# Altium schematic symbol library UBCSolar.SCHLIB: 101 symbols
Pins are listed as number, name and electrical type; pins without a type are passive.

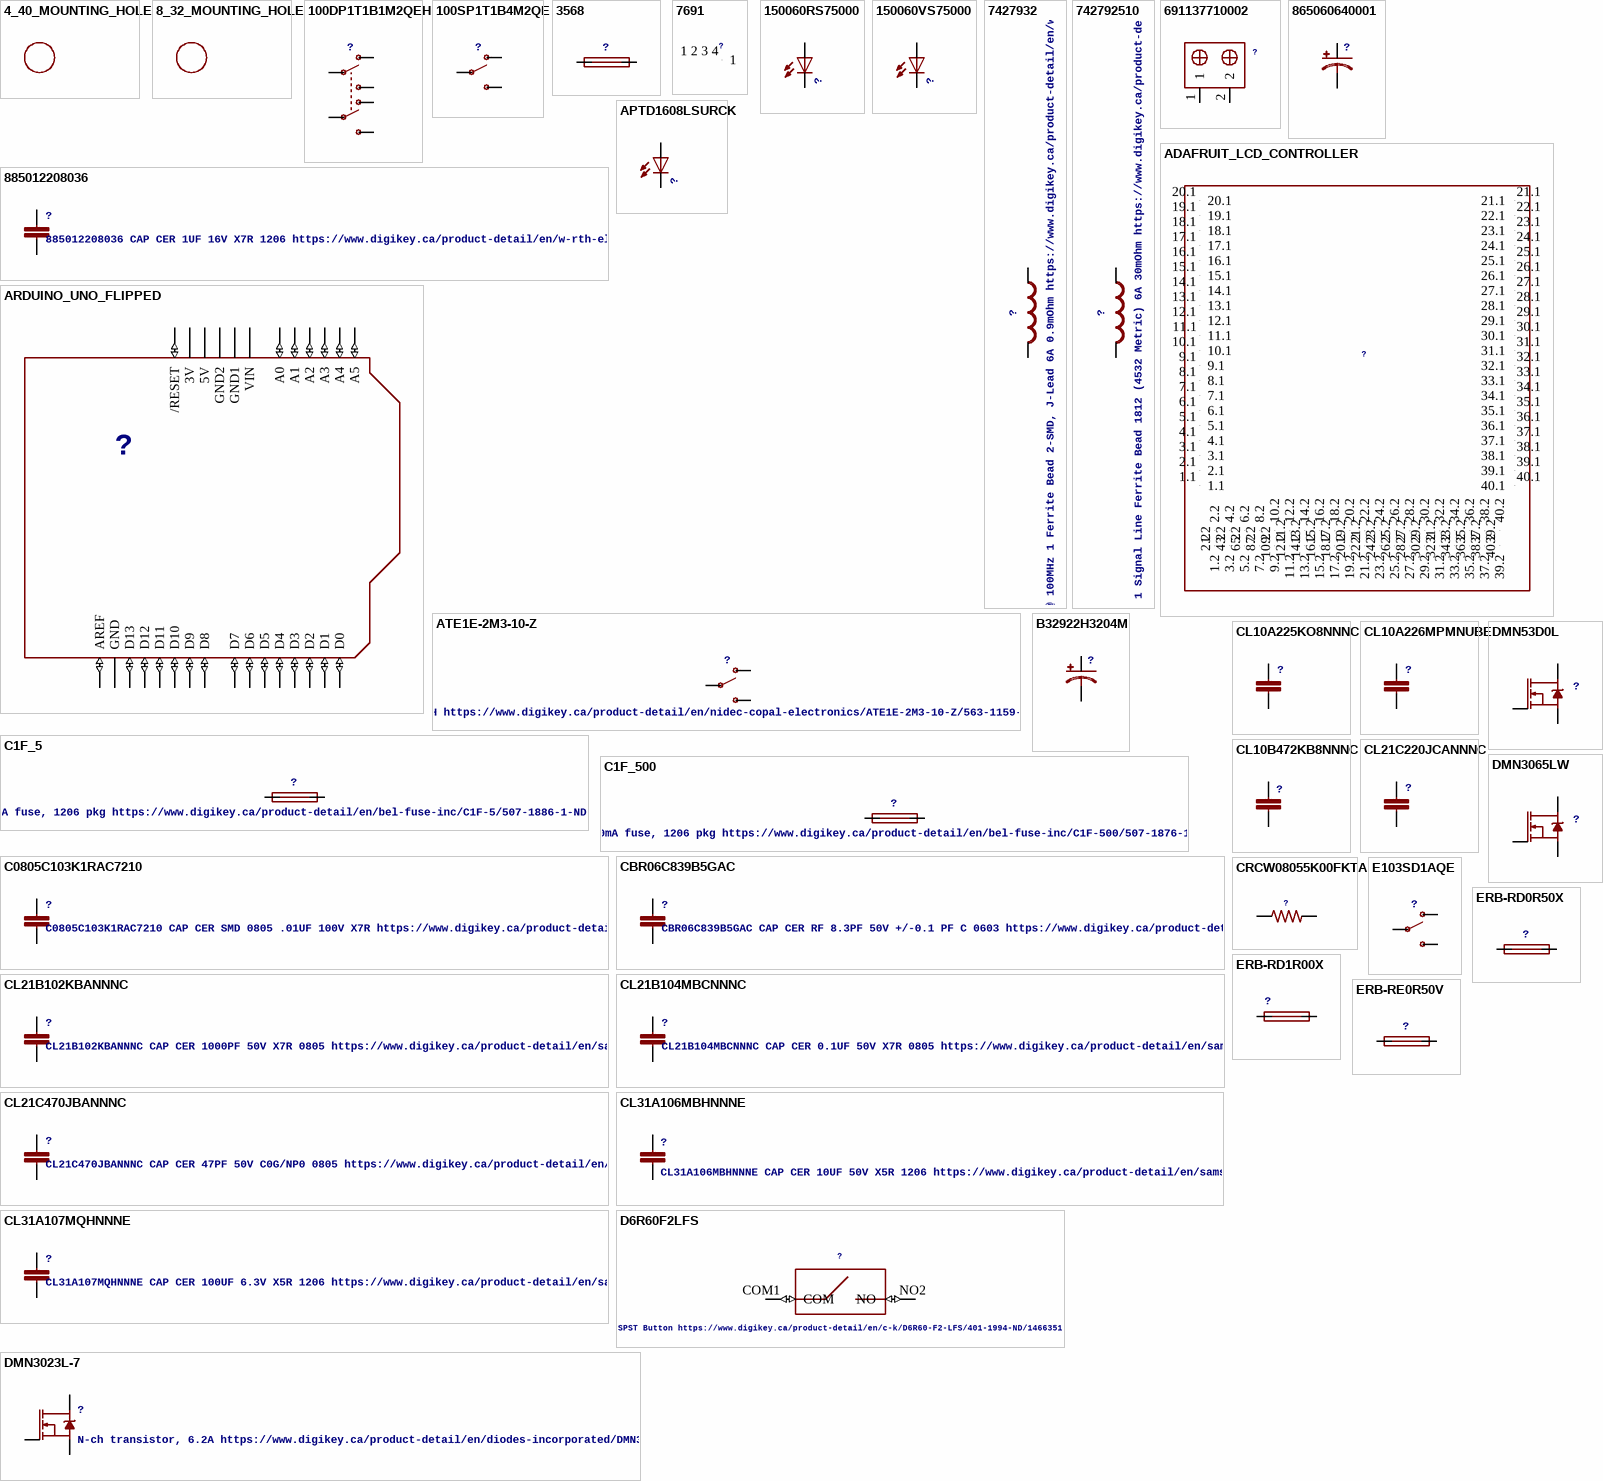
[diagram p0: symbols 4_40_MOUNTING_HOLE to ERB-RE0R50V]

## 4_40_MOUNTING_HOLE
designator ?
GateName_1: G$1; SymbolName_1: 4_40_MOUNTING_HOLE; LibraryName: UBCSolar; DeviceSetName: 4_40_MOUNTING_HOLE; Package: 4_40_MOUNTING_HOLE
footprint 4_40_MOUNTING_HOLE

## 8_32_MOUNTING_HOLE
designator ?
GateName_1: G$1; SymbolName_1: 8_32_MOUNTING_HOLE; LibraryName: UBCSolar; DeviceSetName: 8_32_MOUNTING_HOLE; Package: 8_32_MOUNTING_HOLE
footprint 8_32_MOUNTING_HOLE

## 100DP1T1B1M2QEH
designator ?
GateName_1: G$1; SymbolName_1: 100DP1T1B1M2QEH; LibraryName: UBCSolar; DeviceSetName: 100DP1T1B1M2QEH; Package: 100DP1T1B1M2QEH
footprint 100DP1T1B1M2QEH
pins: 1, 2, 3, 4, 5, 6

## 100SP1T1B4M2QE
designator ?
GateName_1: G$1; SymbolName_1: 100SP1T1B4M2QE; LibraryName: UBCSolar; DeviceSetName: 100SP1T1B4M2QE; Package: 100SP1T1B4M2QE
footprint 100SP1T1B4M2QE
pins: COM, NC, NO

## 3568
designator ?
GateName_1: G$1; SymbolName_1: 3568; LibraryName: UBCSolar; DeviceSetName: 3568; Package: 3568
footprint 3568
pins: 1.1 1.2 1, 2.1 2.2 2

## 7691
designator ?
GateName_1: G$1; SymbolName_1: 7691; LibraryName: UBCSolar; DeviceSetName: 7691; Package: 7691
footprint 7691
pins: 1 2 3 4 1 (io)

## 150060RS75000
designator ?
GateName_1: G$1; SymbolName_1: 150060RS75000; LibraryName: UBCSolar; DeviceSetName: 150060RS75000; Package: 150060RS75000
footprint 150060RS75000
pins: +, -

## 150060VS75000
designator ?
GateName_1: G$1; SymbolName_1: 150060VS75000; LibraryName: UBCSolar; DeviceSetName: 150060VS75000; Package: 150060VS75000
footprint 150060VS75000
pins: +, -

## 7427932
designator ?, comment 7427932 FERRITE BEAD 98 OHM 2SMD 1LN 98 Ohms @ 100MHz 1 Ferrite Bead 2-SMD, J-Lead 6A 0.9mOhm https://www.digikey.ca/product-detail/en/w-rth-elektronik/7427932/732-2394-1-ND/2268596
GateName_1: G$1; SymbolName_1: INDUCTOR; LibraryName: UBCSolar; DeviceSetName: 7427932; Package: 2-SMD_J-LEAD
footprint 2-SMD_J-LEAD
pins: 1, 2

## 742792510
designator ?, comment 742792510 	FERRITE BEAD 70 OHM 1812 1LN 70 Ohms @ 100MHz 1 Signal Line Ferrite Bead 1812 (4532 Metric) 6A 30mOhm https://www.digikey.ca/product-detail/en/w-rth-elektronik/742792510/732-1640-1-ND/1639584
GateName_1: G$1; SymbolName_1: INDUCTOR; LibraryName: UBCSolar; DeviceSetName: 742792510; Package: 1812
footprint 1812
pins: P$1 1, P$2 2

## 691137710002
designator ?
GateName_1: G$1; SymbolName_1: 691137710002; LibraryName: UBCSolar; DeviceSetName: 691137710002; Package: 691137710002
footprint 691137710002
pins: 1 (io), 2 (io)

## 865060640001
designator ?
GateName_1: G$1; SymbolName_1: 865060640001; LibraryName: UBCSolar; DeviceSetName: 865060640001; Package: 865060640001
footprint 865060640001
pins: +, -

## 885012208036
designator ?, comment 885012208036 CAP CER 1UF 16V X7R 1206 https://www.digikey.ca/product-detail/en/w-rth-elektronik/885012208036/732-7692-1-ND/5454319
GateName_1: G$1; SymbolName_1: CERAMIC_CAP; LibraryName: UBCSolar; DeviceSetName: 885012208036; Package: 1206
footprint 1206
pins: 1, 2

## ADAFRUIT_LCD_CONTROLLER
designator ?
GateName_1: G$1; SymbolName_1: ADAFRUIT_LCD_CONTROLLER; LibraryName: UBCSolar; DeviceSetName: ADAFRUIT_LCD_CONTROLLER; Package: ADAFRUIT_LCD_CONTROLLER
footprint ADAFRUIT_LCD_CONTROLLER
pins: 1.1 (io), 1.2 (io), 2.1 (io), 2.2 (io), 3.1 (io), 3.2 (io), 4.1 (io), 4.2 (io), 5.1 (io), 5.2 (io), 6.1 (io), 6.2 (io), 7.1 (io), 7.2 (io), 8.1 (io), 8.2 (io), 9.1 (io), 9.2 (io), 10.1 (io), 10.2 (io), 11.1 (io), 11.2 (io), 12.1 (io), 12.2 (io), 13.1 (io), 13.2 (io), 14.1 (io), 14.2 (io), 15.1 (io), 15.2 (io), 16.1 (io), 16.2 (io), 17.1 (io), 17.2 (io), 18.1 (io), 18.2 (io), 19.1 (io), 19.2 (io), 20.1 (io), 20.2 (io), 21.1 (io), 21.2 (io), 22.1 (io), 22.2 (io), 23.1 (io), 23.2 (io), 24.1 (io), 24.2 (io), 25.1 (io), 25.2 (io), 26.1 (io), 26.2 (io), 27.1 (io), 27.2 (io), 28.1 (io), 28.2 (io), 29.1 (io), 29.2 (io), 30.1 (io), 30.2 (io), 31.1 (io), 31.2 (io), 32.1 (io), 32.2 (io), 33.1 (io), 33.2 (io), 34.1 (io), 34.2 (io), 35.1 (io), 35.2 (io), 36.1 (io), 36.2 (io), 37.1 (io), 37.2 (io), 38.1 (io), 38.2 (io), 39.1 (io), 39.2 (io), 40.1 (io), 40.2 (io)

## APTD1608LSURCK
designator ?
GateName_1: G$1; SymbolName_1: APTD1608LSURCK; LibraryName: UBCSolar; DeviceSetName: APTD1608LSURCK; Package: APTD1608LSURCK
footprint APTD1608LSURCK
pins: +, -

## ARDUINO_UNO_FLIPPED
designator ?
GateName_1: G$1; SymbolName_1: ARDUINO_UNO; DeviceSetName: ARDUINO_UNO_FLIPPED; LibraryName: UBCSolar; Package: ARDUINO_UNO_FLIPPED
footprint ARDUINO_UNO_FLIPPED
pins: 3V (power), 5V (power), A0 (io), A1 (io), A2 (io), A3 (io), A4 (io), A5 (io), AREF (io), D0 (io), D1 (io), D2 (io), D3 (io), D4 (io), D5 (io), D6 (io), D7 (io), D8 (io), D9 (io), D10 (io), D11 (io), D12 (io), D13 (io), GND (power), GND1 (power), GND2 (power), RESET /RESET (io), VIN (power)

## ATE1E-2M3-10-Z
designator ?, comment SPDT SWITCH https://www.digikey.ca/product-detail/en/nidec-copal-electronics/ATE1E-2M3-10-Z/563-1159-ND/1792020
GateName_1: G$1; SymbolName_1: ATE1E-2M3-10-Z; LibraryName: UBCSolar; DeviceSetName: ATE1E-2M3-10-Z; Package: ATE1E-2M3-10-Z
footprint ATE1E-2M3-10-Z
pins: COM, NC, NO

## B32922H3204M
designator ?
GateName_1: G$1; SymbolName_1: B32922H3204M; LibraryName: UBCSolar; DeviceSetName: B32922H3204M; Package: B32922H3204M
footprint B32922H3204M
pins: +, -

## C1F_5
designator ?, comment C1F 5, 5A fuse, 1206 pkg https://www.digikey.ca/product-detail/en/bel-fuse-inc/C1F-5/507-1886-1-ND/4968166
GateName_1: G$1; DeviceSetName: C1F_5; SymbolName_1: FUSE; LibraryName: UBCSolar; Package: 1206
footprint 1206
pins: 1, 2

## C1F_500
designator ?, comment C1F 500, 500mA fuse, 1206 pkg https://www.digikey.ca/product-detail/en/bel-fuse-inc/C1F-500/507-1876-1-ND/4968167
GateName_1: G$1; DeviceSetName: C1F_500; SymbolName_1: FUSE; LibraryName: UBCSolar; Package: 1206
footprint 1206
pins: 1, 2

## C0805C103K1RAC7210
designator ?, comment C0805C103K1RAC7210 CAP CER SMD 0805 .01UF 100V X7R https://www.digikey.ca/product-detail/en/kemet/C0805C103K1RAC7210/399-17617-1-ND/8572617
GateName_1: G$1; SymbolName_1: CERAMIC_CAP; LibraryName: UBCSolar; DeviceSetName: C0805C103K1RAC7210; Package: 0805
footprint 0805
pins: 1, 2

## CBR06C839B5GAC
designator ?, comment CBR06C839B5GAC CAP CER RF 8.3PF 50V +/-0.1 PF C 0603 https://www.digikey.ca/product-detail/en/kemet/CBR06C839B5GAC/399-16261-1-ND/7649846
GateName_1: G$1; SymbolName_1: CERAMIC_CAP; LibraryName: UBCSolar; DeviceSetName: CBR06C839B5GAC; Package: 0603
footprint 0603
pins: 1, 2

## CL10A225KO8NNNC
designator ?
GateName_1: G$1; SymbolName_1: CL10A225KO8NNNC; LibraryName: UBCSolar; DeviceSetName: CL10A225KO8NNNC; Package: CL10A225KO8NNNC
footprint CL10A225KO8NNNC
pins: 1, 2

## CL10A226MPMNUBE
designator ?
GateName_1: G$1; SymbolName_1: CL10A226MPMNUBE; LibraryName: UBCSolar; DeviceSetName: CL10A226MPMNUBE; Package: CL10A226MPMNUBE
footprint CL10A226MPMNUBE
pins: P$1 1, P$2 2

## CL10B472KB8NNNC
designator ?
GateName_1: G$1; SymbolName_1: CL10B472KB8NNNC; LibraryName: UBCSolar; DeviceSetName: CL10B472KB8NNNC; Package: CL10B472KB8NNNC
footprint CL10B472KB8NNNC
pins: 1, 2

## CL21B102KBANNNC
designator ?, comment CL21B102KBANNNC CAP CER 1000PF 50V X7R 0805 https://www.digikey.ca/product-detail/en/samsung-electro-mechanics/CL21B102KBANNNC/1276-1020-1-ND/3889106
GateName_1: G$1; SymbolName_1: CERAMIC_CAP; LibraryName: UBCSolar; DeviceSetName: CL21B102KBANNNC; Package: 0805
footprint 0805
pins: 1, 2

## CL21B104MBCNNNC
designator ?, comment CL21B104MBCNNNC CAP CER 0.1UF 50V X7R 0805 https://www.digikey.ca/product-detail/en/samsung-electro-mechanics/CL21B104MBCNNNC/1276-2450-1-ND/3890536
GateName_1: G$1; SymbolName_1: CERAMIC_CAP; LibraryName: UBCSolar; DeviceSetName: CL21B104MBCNNNC; Package: 0805
footprint 0805
pins: 1, 2

## CL21C220JCANNNC
designator ?
GateName_1: G$1; SymbolName_1: CERAMIC_CAP; DeviceSetName: CL21C220JCANNNC; LibraryName: UBCSolar; Package: 0805
footprint 0805
pins: 1, 2

## CL21C470JBANNNC
designator ?, comment CL21C470JBANNNC CAP CER 47PF 50V C0G/NP0 0805 https://www.digikey.ca/product-detail/en/samsung-electro-mechanics/CL21C470JBANNNC/1276-1156-1-ND/3889242
GateName_1: G$1; SymbolName_1: CERAMIC_CAP; LibraryName: UBCSolar; DeviceSetName: CL21C470JBANNNC; Package: 0805
footprint 0805
pins: 1, 2

## CL31A106MBHNNNE
designator ?, comment CL31A106MBHNNNE CAP CER 10UF 50V X5R 1206 https://www.digikey.ca/product-detail/en/samsung-electro-mechanics/CL31A106MBHNNNE/1276-6736-1-ND/5961595
GateName_1: G$1; SymbolName_1: CL31A106MBHNNNE; LibraryName: UBCSolar; DeviceSetName: CL31A106MBHNNNE; Package: CL31A106MBHNNNE
footprint CL31A106MBHNNNE
pins: P$1 1, P$2 2

## CL31A107MQHNNNE
designator ?, comment CL31A107MQHNNNE CAP CER 100UF 6.3V X5R 1206 https://www.digikey.ca/product-detail/en/samsung-electro-mechanics/CL31A107MQHNNNE/1276-1782-1-ND/3889868
GateName_1: G$1; SymbolName_1: CERAMIC_CAP; LibraryName: UBCSolar; DeviceSetName: CL31A107MQHNNNE; Package: 1206
footprint 1206
pins: 1, 2

## CRCW08055K00FKTA
designator ?
GateName_1: G$1; SymbolName_1: CRCW08055K00FKTA; LibraryName: UBCSolar; DeviceSetName: CRCW08055K00FKTA; Package: CRCW08055K00FKTA
footprint CRCW08055K00FKTA
pins: P$1 1, P$2 2

## D6R60F2LFS
designator ?, comment SPST Button https://www.digikey.ca/product-detail/en/c-k/D6R60-F2-LFS/401-1994-ND/1466351
GateName_1: G$1; SymbolName_1: D6R60F2LFS; LibraryName: UBCSolar; DeviceSetName: D6R60F2LFS; Package: D6R60F2LFS
footprint D6R60F2LFS
pins: COM1 COM (io), NO2 NO (io)

## DMN53D0L
designator ?
GateName_1: G$1; SymbolName_1: DMN53D0L; LibraryName: UBCSolar; DeviceSetName: DMN53D0L; Package: DMN53D0L
footprint DMN53D0L
pins: D (io), G (io), S (io)

## DMN3023L-7
designator ?, comment N-ch transistor, 6.2A https://www.digikey.ca/product-detail/en/diodes-incorporated/DMN3023L-7/DMN3023L-7DICT-ND/5453155
GateName_1: G$1; SymbolName_1: DMN3023L-7; LibraryName: UBCSolar; DeviceSetName: DMN3023L-7; Package: SOT-23
footprint SOT-23
pins: D (io), G (io), S (io)

## DMN3065LW
designator ?
GateName_1: G$1; SymbolName_1: DMN3065LW; LibraryName: UBCSolar; DeviceSetName: DMN3065LW; Package: DMN3065LW
footprint DMN3065LW
pins: D (io), G (io), S (io)

## E103SD1AQE
designator ?
GateName_1: G$1; SymbolName_1: E103SD1AQE; LibraryName: UBCSolar; DeviceSetName: E103SD1AQE; Package: E103SD1AQE
footprint E103SD1AQE
pins: 1, 2, 3

## ERB-RD0R50X
designator ?
GateName_1: G$1; SymbolName_1: ERB-RD0R50X; LibraryName: UBCSolar; DeviceSetName: ERB-RD0R50X; Package: ERB-RD0R50X
footprint ERB-RD0R50X
pins: 1, 2

## ERB-RD1R00X
designator ?
GateName_1: G$1; SymbolName_1: ERB-RD1R00X; LibraryName: UBCSolar; DeviceSetName: ERB-RD1R00X; Package: ERB-RD1R00X
footprint ERB-RD1R00X
pins: 1, 2

## ERB-RE0R50V
designator ?
GateName_1: G$1; SymbolName_1: ERB-RE0R50V; LibraryName: UBCSolar; DeviceSetName: ERB-RE0R50V; Package: ERB-RE0R50V
footprint ERB-RE0R50V
pins: 1, 2

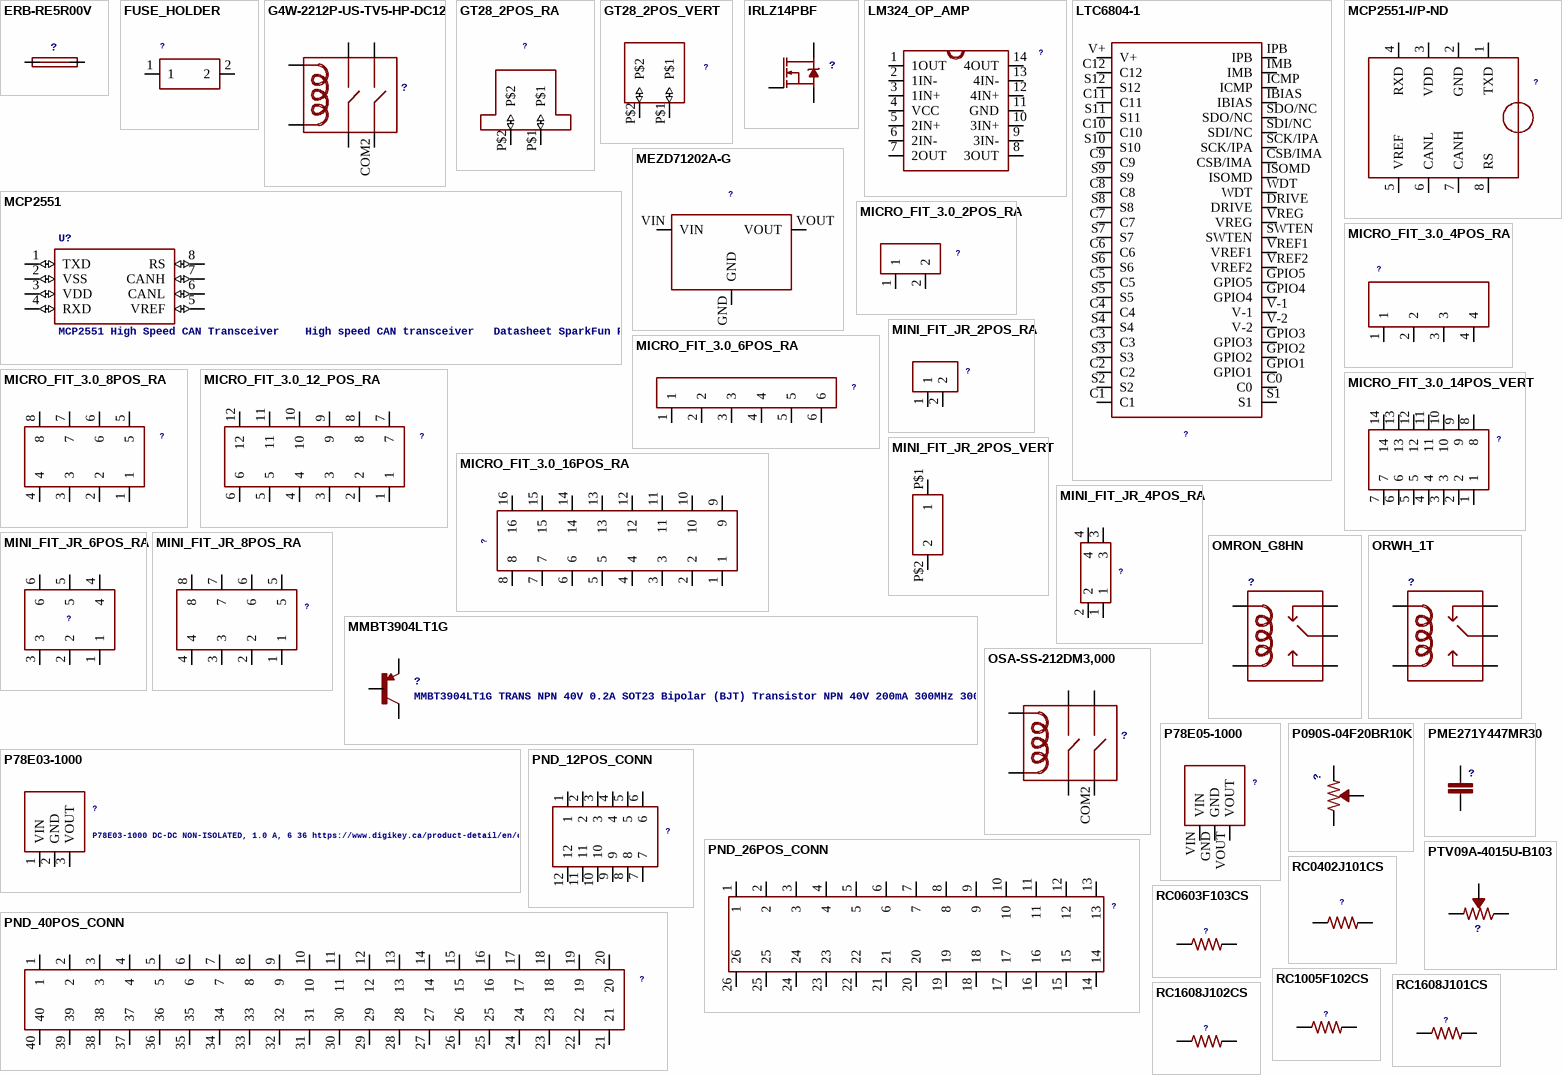
[diagram p1: symbols ERB-RE5R00V to RC1608J102CS]

## ERB-RE5R00V
designator ?
GateName_1: G$1; SymbolName_1: ERB-RE5R00V; LibraryName: UBCSolar; DeviceSetName: ERB-RE5R00V; Package: ERB-RE5R00V
footprint ERB-RE5R00V
pins: 1, 2

## FUSE_HOLDER
designator ?
GateName_1: G$1; SymbolName_1: FUSE_HOLDER; LibraryName: UBCSolar; DeviceSetName: FUSE_HOLDER; Package: FUSE_HOLDER
footprint FUSE_HOLDER
pins: 1 (io), 2 (io)

## G4W-2212P-US-TV5-HP-DC12
designator ?
GateName_1: G$1; SymbolName_1: G4W-2212P-US-TV5-HP-DC12; LibraryName: UBCSolar; DeviceSetName: G4W-2212P-US-TV5-HP-DC12; Package: G4W-2212P-US-TV5-HP-DC12
footprint G4W-2212P-US-TV5-HP-DC12
pins: COIL1 (io), COIL2 (io), COM1 (io), COM2 (io), NO1 (io), NO2 (io)

## GT28_2POS_RA
designator ?
GateName_1: G$1; SymbolName_1: GT28_2POS_RA; LibraryName: UBCSolar; DeviceSetName: GT28_2POS_RA; Package: GT28_2POS_RA
footprint GT28_2POS_RA
pins: P$1 (io), P$2 (io)

## GT28_2POS_VERT
designator ?
GateName_1: G$1; SymbolName_1: GT28_2POS_VERT; LibraryName: UBCSolar; DeviceSetName: GT28_2POS_VERT; Package: GT28_2POS_VERT
footprint GT28_2POS_VERT
pins: P$1 (io), P$2 (io)

## IRLZ14PBF
designator ?
GateName_1: G$1; SymbolName_1: IRLZ14PBF; LibraryName: UBCSolar; DeviceSetName: IRLZ14PBF; Package: IRLZ14PBF
footprint IRLZ14PBF
pins: D (io), G (io), S (io)

## LM324_OP_AMP
designator ?
GateName_1: G$1; SymbolName_1: LM324_OP_AMP; LibraryName: UBCSolar; DeviceSetName: LM324_OP_AMP; Package: LM324_OP_AMP
footprint LM324_OP_AMP
pins: 1 1OUT (io), 2 1IN- (io), 3 1IN+ (io), 4 VCC (io), 5 2IN+ (io), 6 2IN- (io), 7 2OUT (io), 8 3OUT (io), 9 3IN- (io), 10 3IN+ (io), 11 GND (io), 12 4IN+ (io), 13 4IN- (io), 14 4OUT (io)

## LTC6804-1
designator ?
GateName_1: G$1; SymbolName_1: LTC6804-1; LibraryName: UBCSolar; DeviceSetName: LTC6804-1; Package: LTC6804-1
footprint LTC6804-1
pins: C0 (io), C1 (io), C2 (io), C3 (io), C4 (io), C5 (io), C6 (io), C7 (io), C8 (io), C9 (io), C10 (io), C11 (io), C12 (io), CSB/IMA (io), DRIVE (io), GPIO1 (io), GPIO2 (io), GPIO3 (io), GPIO4 (io), GPIO5 (io), IBIAS (io), ICMP (io), IMB (io), IPB (io), ISOMD (io), S1 (io), S2 (io), S3 (io), S4 (io), S5 (io), S6 (io), S7 (io), S8 (io), S9 (io), S10 (io), S11 (io), S12 (io), SCK/IPA (io), SDI/NC (io), SDO/NC (io), SWTEN (io), V+ (io), V-1 (io), V-2 (io), VREF1 (io), VREF2 (io), VREG (io), WDT (io)

## MCP2551
designator U?, comment MCP2551 High Speed CAN Transceiver    High speed CAN transceiver   Datasheet SparkFun Products  CAN-BUS Shield (DEV-13262)  SparkFun OBD-II UART (WIG-09555)
PROD_ID: IC-09907; GateName_1: MCP2551; SymbolName_1: MCP2551; LibraryName: UBCSolar; DeviceSetName: MCP2551; Package: SO08
footprint SO08
pins: 1 TXD (io), 2 VSS (io), 3 VDD (io), 4 RXD (io), 5 VREF (io), 6 CANL (io), 7 CANH (io), 8 RS (io)

## MCP2551-I/P-ND
designator ?
GateName_1: G$1; SymbolName_1: MCP2551-I/P-ND; LibraryName: UBCSolar; DeviceSetName: MCP2551-I/P-ND; Package: MCP2551-I/P-ND
footprint MCP2551-I/P-ND
pins: 1 TXD (io), 2 GND (io), 3 VDD (io), 4 RXD (io), 5 VREF (io), 6 CANL (io), 7 CANH (io), 8 RS (io)

## MEZD71202A-G
designator ?
GateName_1: G$1; SymbolName_1: MEZD71202A-G; LibraryName: UBCSolar; DeviceSetName: MEZD71202A-G; Package: MEZD71202A-G
footprint MEZD71202A-G
pins: GND (io), VIN (io), VOUT (io)

## MICRO_FIT_3.0_2POS_RA
designator ?
GateName_1: G$1; SymbolName_1: MICRO_FIT_3.0_2POS_RA; LibraryName: UBCSolar; DeviceSetName: MICRO_FIT_3.0_2POS_RA; Package: MICRO_FIT_3.0_2POS_RA
footprint MICRO_FIT_3.0_2POS_RA
pins: 1 (io), 2 (io)

## MICRO_FIT_3.0_4POS_RA
designator ?
GateName_1: G$1; SymbolName_1: MICRO_FIT_3.0_4POS_RA; LibraryName: UBCSolar; DeviceSetName: MICRO_FIT_3.0_4POS_RA; Package: MICRO_FIT_3.0_4POS_RA
footprint MICRO_FIT_3.0_4POS_RA
pins: 1 (io), 2 (io), 3 (io), 4 (io)

## MICRO_FIT_3.0_6POS_RA
designator ?
GateName_1: G$1; SymbolName_1: MICRO_FIT_3.0_6POS_RA; LibraryName: UBCSolar; DeviceSetName: MICRO_FIT_3.0_6POS_RA; Package: MICRO_FIT_3.0_6POS_RA
footprint MICRO_FIT_3.0_6POS_RA
pins: 1 (io), 2 (io), 3 (io), 4 (io), 5 (io), 6 (io)

## MICRO_FIT_3.0_8POS_RA
designator ?
GateName_1: G$1; SymbolName_1: MICRO_FIT_3.0_8POS_RA; LibraryName: UBCSolar; DeviceSetName: MICRO_FIT_3.0_8POS_RA; Package: MICRO_FIT_3.0_8POS_RA
footprint MICRO_FIT_3.0_8POS_RA
pins: 1 (io), 2 (io), 3 (io), 4 (io), 5 (io), 6 (io), 7 (io), 8 (io)

## MICRO_FIT_3.0_12_POS_RA
designator ?
GateName_1: G$1; SymbolName_1: MICRO_FIT_3.0_12POS_RA; DeviceSetName: MICRO_FIT_3.0_12_POS_RA; LibraryName: UBCSolar; Package: MICRO_FIT_3.0_12POS_RA
footprint MICRO_FIT_3.0_12POS_RA
pins: 1 (io), 2 (io), 3 (io), 4 (io), 5 (io), 6 (io), 7 (io), 8 (io), 9 (io), 10 (io), 11 (io), 12 (io)

## MICRO_FIT_3.0_14POS_VERT
designator ?
GateName_1: G$1; SymbolName_1: MICRO_FIT_3.0_14POS_VERT; LibraryName: UBCSolar; DeviceSetName: MICRO_FIT_3.0_14POS_VERT; Package: MICRO_FIT_3.0_14POS_VERT
footprint MICRO_FIT_3.0_14POS_VERT
pins: 1 (io), 2 (io), 3 (io), 4 (io), 5 (io), 6 (io), 7 (io), 8 (io), 9 (io), 10 (io), 11 (io), 12 (io), 13 (io), 14 (io)

## MICRO_FIT_3.0_16POS_RA
designator ?
GateName_1: G$1; SymbolName_1: MICRO_FIT_3.0_16POS_RA; LibraryName: UBCSolar; DeviceSetName: MICRO_FIT_3.0_16POS_RA; Package: MICRO_FIT_3.0_16POS_RA
footprint MICRO_FIT_3.0_16POS_RA
pins: 1 (io), 2 (io), 3 (io), 4 (io), 5 (io), 6 (io), 7 (io), 8 (io), 9 (io), 10 (io), 11 (io), 12 (io), 13 (io), 14 (io), 15 (io), 16 (io)

## MINI_FIT_JR_2POS_RA
designator ?
GateName_1: G$1; SymbolName_1: MINI_FIT_JR_2POS_RA; LibraryName: UBCSolar; DeviceSetName: MINI_FIT_JR_2POS_RA; Package: MINI_FIT_JR_2POS_RA
footprint MINI_FIT_JR_2POS_RA
pins: 1 (io), 2 (io)

## MINI_FIT_JR_2POS_VERT
designator ?
GateName_1: G$1; SymbolName_1: MINI_FIT_JR_2POS_VERT; LibraryName: UBCSolar; DeviceSetName: MINI_FIT_JR_2POS_VERT; Package: MINI_FIT_JR_2POS_VERT
footprint MINI_FIT_JR_2POS_VERT
pins: P$1 1 (io), P$2 2 (io)

## MINI_FIT_JR_4POS_RA
designator ?
GateName_1: G$1; SymbolName_1: MINI_FIT_JR_4POS_RA; LibraryName: UBCSolar; DeviceSetName: MINI_FIT_JR_4POS_RA; Package: MINI_FIT_JR_4POS_RA
footprint MINI_FIT_JR_4POS_RA
pins: 1 (io), 2 (io), 3 (io), 4 (io)

## MINI_FIT_JR_6POS_RA
designator ?
GateName_1: G$1; SymbolName_1: MINI_FIT_JR_6POS_RA; LibraryName: UBCSolar; DeviceSetName: MINI_FIT_JR_6POS_RA; Package: MINI_FIT_JR_6POS_RA
footprint MINI_FIT_JR_6POS_RA
pins: 1 (io), 2 (io), 3 (io), 4 (io), 5 (io), 6 (io)

## MINI_FIT_JR_8POS_RA
designator ?
GateName_1: G$1; SymbolName_1: MINI_FIT_JR_8POS_RA; LibraryName: UBCSolar; DeviceSetName: MINI_FIT_JR_8POS_RA; Package: MINI_FIT_JR_8POS_RA
footprint MINI_FIT_JR_8POS_RA
pins: 1 (io), 2 (io), 3 (io), 4 (io), 5 (io), 6 (io), 7 (io), 8 (io)

## MMBT3904LT1G
designator ?, comment MMBT3904LT1G TRANS NPN 40V 0.2A SOT23 Bipolar (BJT) Transistor NPN 40V 200mA 300MHz 300mW Surface Mount SOT-23-3 (TO-236) https://www.digikey.ca/product-detail/en/on-semiconductor/MMBT3904LT1G/MMBT3904LT1GOSCT-ND/1139813
GateName_1: G$1; SymbolName_1: BJT; LibraryName: UBCSolar; DeviceSetName: MMBT3904LT1G; Package: SOT-23
footprint SOT-23
pins: D C, G B, S E

## OMRON_G8HN
designator ?
GateName_1: G$1; SymbolName_1: OMRON_G8HN; LibraryName: UBCSolar; DeviceSetName: OMRON_G8HN; Package: OMRON_G8HN
footprint OMRON_G8HN
pins: 1.1 1.2 1 (io), 2.1 2.2 2 (io), 3.1 3.2 3 (io), 4.1 4.2 4 (io), 5.1 5.2 5 (io)

## ORWH_1T
designator ?
GateName_1: G$1; SymbolName_1: ORWH_1T; LibraryName: UBCSolar; DeviceSetName: ORWH_1T; Package: ORWH_1T
footprint ORWH_1T
pins: COIL1 (io), COIL2 (io), COM (io), NC (io), NO (io)

## OSA-SS-212DM3,000
designator ?
GateName_1: G$1; SymbolName_1: OSA-SS-212DM3,000; LibraryName: UBCSolar; DeviceSetName: OSA-SS-212DM3,000; Package: OSA-SS-212DM3,000
footprint OSA-SS-212DM3,000
pins: COIL1 (io), COIL2 (io), COM1 (io), COM2 (io), NO1 (io), NO2 (io)

## P78E03-1000
designator ?, comment P78E03-1000 DC-DC NON-ISOLATED, 1.0 A, 6 36 https://www.digikey.ca/product-detail/en/cui-inc/P78E03-1000/102-5037-ND/9649653
GateName_1: G$1; SymbolName_1: DCDC_CONVERTER; LibraryName: UBCSolar; DeviceSetName: P78E03-1000; Package: 3-SIP_MODULE
footprint 3-SIP_MODULE
pins: 1 VIN (io), 2 GND (io), 3 VOUT (io)

## P78E05-1000
designator ?
GateName_1: G$1; SymbolName_1: P78E05-1000; LibraryName: UBCSolar; DeviceSetName: P78E05-1000; Package: P78E05-1000
footprint P78E05-1000
pins: GND (io), VIN (io), VOUT (io)

## P090S-04F20BR10K
designator ?
GateName_1: G$1; SymbolName_1: P090S-04F20BR10K; LibraryName: UBCSolar; DeviceSetName: P090S-04F20BR10K; Package: P090S-04F20BR10K
footprint P090S-04F20BR10K
pins: IN1, IN2, VAL

## PME271Y447MR30
designator ?
GateName_1: G$1; SymbolName_1: PME271Y447MR30; LibraryName: UBCSolar; DeviceSetName: PME271Y447MR30; Package: PME271Y447MR30
footprint PME271Y447MR30
pins: P$1 1, P$2 2

## PND_12POS_CONN
designator ?
GateName_1: G$1; SymbolName_1: PND_12POS_CONN; LibraryName: UBCSolar; DeviceSetName: PND_12POS_CONN; Package: PND_12POS_CONN
footprint PND_12POS_CONN
pins: 1 (io), 2 (io), 3 (io), 4 (io), 5 (io), 6 (io), 7 (io), 8 (io), 9 (io), 10 (io), 11 (io), 12 (io)

## PND_26POS_CONN
designator ?
GateName_1: G$1; SymbolName_1: PND_26POS_CONN; LibraryName: UBCSolar; DeviceSetName: PND_26POS_CONN; Package: PND_26POS_CONN
footprint PND_26POS_CONN
pins: 1 (io), 2 (io), 3 (io), 4 (io), 5 (io), 6 (io), 7 (io), 8 (io), 9 (io), 10 (io), 11 (io), 12 (io), 13 (io), 14 (io), 15 (io), 16 (io), 17 (io), 18 (io), 19 (io), 20 (io), 21 (io), 22 (io), 23 (io), 24 (io), 25 (io), 26 (io)

## PND_40POS_CONN
designator ?
GateName_1: G$1; SymbolName_1: PND_40POS_CONN; LibraryName: UBCSolar; DeviceSetName: PND_40POS_CONN; Package: PND_40POS_CONN
footprint PND_40POS_CONN
pins: 1 (io), 2 (io), 3 (io), 4 (io), 5 (io), 6 (io), 7 (io), 8 (io), 9 (io), 10 (io), 11 (io), 12 (io), 13 (io), 14 (io), 15 (io), 16 (io), 17 (io), 18 (io), 19 (io), 20 (io), 21 (io), 22 (io), 23 (io), 24 (io), 25 (io), 26 (io), 27 (io), 28 (io), 29 (io), 30 (io), 31 (io), 32 (io), 33 (io), 34 (io), 35 (io), 36 (io), 37 (io), 38 (io), 39 (io), 40 (io)

## PTV09A-4015U-B103
designator ?
GateName_1: G$1; SymbolName_1: PTV09A-4015U-B103; LibraryName: UBCSolar; DeviceSetName: PTV09A-4015U-B103; Package: PTV09A-4015U-B103
footprint PTV09A-4015U-B103
pins: 1, 2, 3

## RC0402J101CS
designator ?
GateName_1: G$1; SymbolName_1: RC0402J101CS; LibraryName: UBCSolar; DeviceSetName: RC0402J101CS; Package: RC0402J101CS
footprint RC0402J101CS
pins: P$1 1, P$2 2

## RC0603F103CS
designator ?
GateName_1: G$1; SymbolName_1: RC0603F103CS; LibraryName: UBCSolar; DeviceSetName: RC0603F103CS; Package: RC0603F103CS
footprint RC0603F103CS
pins: P$1 1, P$2 2

## RC1005F102CS
designator ?
GateName_1: G$1; SymbolName_1: RC1005F102CS; LibraryName: UBCSolar; DeviceSetName: RC1005F102CS; Package: RC1005F102CS
footprint RC1005F102CS
pins: P$1 1, P$2 2

## RC1608J101CS
designator ?
GateName_1: G$1; SymbolName_1: RC1608J101CS; LibraryName: UBCSolar; DeviceSetName: RC1608J101CS; Package: RC1608J101CS
footprint RC1608J101CS
pins: P$1 1, P$2 2

## RC1608J102CS
designator ?
GateName_1: G$1; SymbolName_1: RC1608J102CS; LibraryName: UBCSolar; DeviceSetName: RC1608J102CS; Package: RC1608J102CS
footprint RC1608J102CS
pins: P$1 1, P$2 2

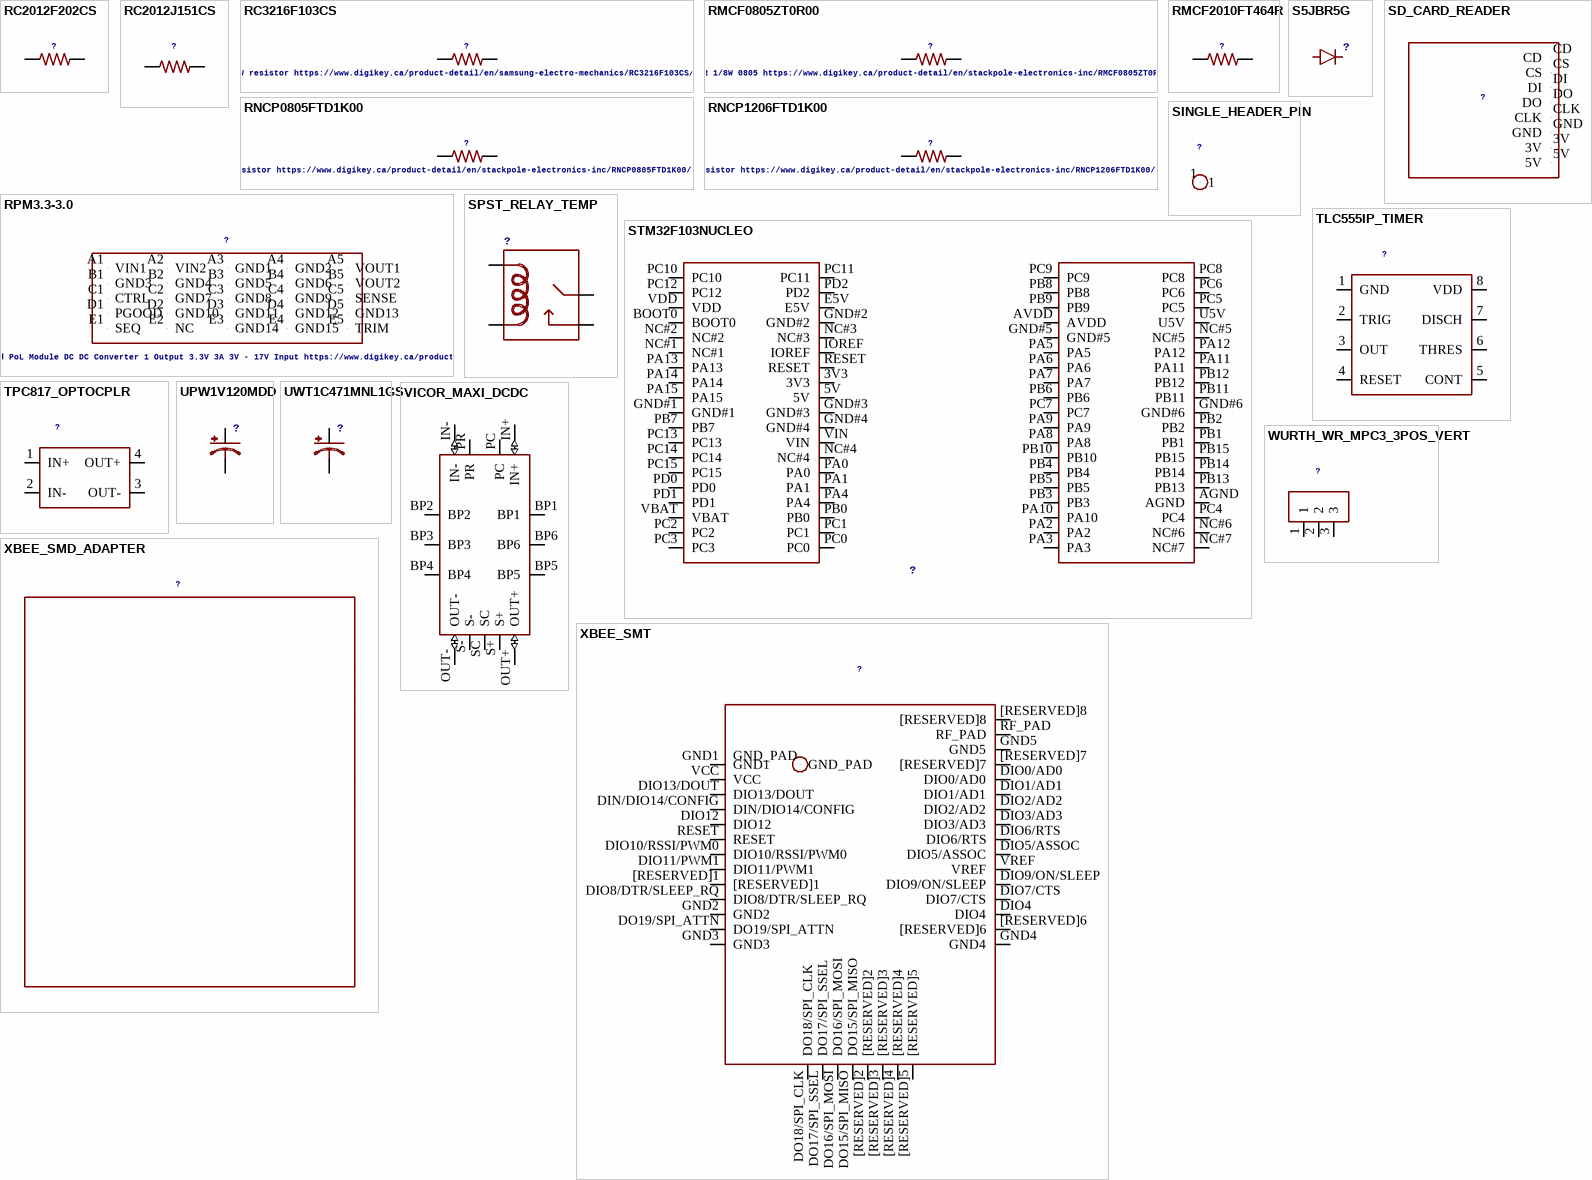
[diagram p2: symbols RC2012F202CS to XBEE_SMT]

## RC2012F202CS
designator ?
GateName_1: G$1; SymbolName_1: RC2012F202CS; LibraryName: UBCSolar; DeviceSetName: RC2012F202CS; Package: RC2012F202CS
footprint RC2012F202CS
pins: P$1 1, P$2 2

## RC2012J151CS
designator ?
GateName_1: G$1; SymbolName_1: RC2012J151CS; LibraryName: UBCSolar; DeviceSetName: RC2012J151CS; Package: RC2012J151CS
footprint RC2012J151CS
pins: P$1 1, P$2 2

## RC3216F103CS
designator ?, comment RC3216F103CS 10kÎ© 1/4W resistor https://www.digikey.ca/product-detail/en/samsung-electro-mechanics/RC3216F103CS/1276-5742-1-ND/3968714
GateName_1: G$1; SymbolName_1: RESISTOR; LibraryName: UBCSolar; DeviceSetName: RC3216F103CS; Package: 1206
footprint 1206
pins: 1, 2

## RMCF0805ZT0R00
designator ?, comment RMCF0805ZT0R00 RES 0 OHM JUMPER 1/8W 0805 https://www.digikey.ca/product-detail/en/stackpole-electronics-inc/RMCF0805ZT0R00/RMCF0805ZT0R00CT-ND/1942606
GateName_1: G$1; SymbolName_1: RESISTOR; LibraryName: UBCSolar; DeviceSetName: RMCF0805ZT0R00; Package: 0805
footprint 0805
pins: 1, 2

## RMCF2010FT464R
designator ?
GateName_1: G$1; SymbolName_1: RMCF2010FT464R; LibraryName: UBCSolar; DeviceSetName: RMCF2010FT464R; Package: RMCF2010FT464R
footprint RMCF2010FT464R
pins: P$1 1, P$2 2

## RNCP0805FTD1K00
designator ?, comment RNCP0805FTD1K00 1kÎ© 1/4W resistor https://www.digikey.ca/product-detail/en/stackpole-electronics-inc/RNCP0805FTD1K00/RNCP0805FTD1K00CT-ND/2240568
GateName_1: G$1; SymbolName_1: RESISTOR; LibraryName: UBCSolar; DeviceSetName: RNCP0805FTD1K00; Package: 0805
footprint 0805
pins: 1, 2

## RNCP1206FTD1K00
designator ?, comment RNCP1206FTD1K00 1kÎ© 1/2W resistor https://www.digikey.ca/product-detail/en/stackpole-electronics-inc/RNCP1206FTD1K00/RNCP1206FTD1K00CT-ND/2240675
GateName_1: G$1; SymbolName_1: RESISTOR; LibraryName: UBCSolar; DeviceSetName: RNCP1206FTD1K00; Package: 1206
footprint 1206
pins: 1, 2

## RPM3.3-3.0
designator ?, comment RPM3.3-3.0 3A DC/DC-CONVERTER 'INNOLINE' SM Non-Isolated PoL Module DC DC Converter 1 Output 3.3V 3A 3V - 17V Input https://www.digikey.ca/product-detail/en/recom-power/RPM3.3-3.0/945-3253-1-ND/9644700
GateName_1: G$1; SymbolName_1: RPM3.3-3.0; LibraryName: UBCSolar; DeviceSetName: RPM3.3-3.0; Package: 25-BLGA_MODULE
footprint 25-BLGA_MODULE
pins: A1 VIN1 (io), A2 VIN2 (io), A3 GND1 (io), A4 GND2 (io), A5 VOUT1 (io), B1 GND3 (io), B2 GND4 (io), B3 GND5 (io), B4 GND6 (io), B5 VOUT2 (io), C1 CTRL (io), C2 GND7 (io), C3 GND8 (io), C4 GND9 (io), C5 SENSE (io), D1 PGOOD (io), D2 GND10 (io), D3 GND11 (io), D4 GND12 (io), D5 GND13 (io), E1 SEQ (io), E2 NC (io), E3 GND14 (io), E4 GND15 (io), E5 TRIM (io)

## S5JBR5G
designator ?
GateName_1: G$1; SymbolName_1: S5JBR5G; LibraryName: UBCSolar; DeviceSetName: S5JBR5G; Package: S5JBR5G
footprint S5JBR5G
pins: 1, 2

## SD_CARD_READER
designator ?
GateName_1: G$1; SymbolName_1: SD_CARD_READER; LibraryName: UBCSolar; DeviceSetName: SD_CARD_READER; Package: SD_CARD_READER
footprint SD_CARD_READER
pins: 3V (io), 5V (io), CD (io), CLK (io), CS (io), DI (io), DO (io), GND (io)

## SINGLE_HEADER_PIN
designator ?
GateName_1: G$1; SymbolName_1: SINGLE_HEADER_PIN; LibraryName: UBCSolar; DeviceSetName: SINGLE_HEADER_PIN; Package: SINGLE_HEADER_PIN
footprint SINGLE_HEADER_PIN
pins: 1 (io)

## SPST_RELAY_TEMP
designator ?
GateName_1: G$1; SymbolName_1: SPST_RELAY; DeviceSetName: SPST_RELAY_TEMP; LibraryName: UBCSolar; Package: SPST_RELAY_TEMP
footprint SPST_RELAY_TEMP
pins: P$1 COIL1 (io), P$2 COIL2 (io), P$3 MAIN (io), P$4 NO (io)

## STM32F103NUCLEO
designator ?
GateName_1: G$1; SymbolName_1: STM32F103NUCLEO; LibraryName: UBCSolar; DeviceSetName: STM32F103NUCLEO; Package: STM32F103NUCLEO
footprint STM32F103NUCLEO
pins: 3V3 (io), 5V (io), AGND (io), AVDD (io), BOOT0 (io), E5V (io), GND#1 (io), GND#2 (io), GND#3 (io), GND#4 (io), GND#5 (io), GND#6 (io), IOREF (io), NC#1 (io), NC#2 (io), NC#3 (io), NC#4 (io), NC#5 (io), NC#6 (io), NC#7 (io), PA0 (io), PA1 (io), PA2 (io), PA3 (io), PA4 (io), PA5 (io), PA6 (io), PA7 (io), PA8 (io), PA9 (io), PA10 (io), PA11 (io), PA12 (io), PA13 (io), PA14 (io), PA15 (io), PB0 (io), PB1 (io), PB2 (io), PB3 (io), PB4 (io), PB5 (io), PB6 (io), PB7 (io), PB8 (io), PB9 (io), PB10 (io), PB11 (io), PB12 (io), PB13 (io), PB14 (io), PB15 (io), PC0 (io), PC1 (io), PC2 (io), PC3 (io), PC4 (io), PC5 (io), PC6 (io), PC7 (io), PC8 (io), PC9 (io), PC10 (io), PC11 (io), PC12 (io), PC13 (io), PC14 (io), PC15 (io), PD0 (io), PD1 (io), PD2 (io), RESET (io), U5V (io), VBAT (io), VDD (io), VIN (io)

## TLC555IP_TIMER
designator ?
GateName_1: G$1; SymbolName_1: TLC555IP_TIMER; LibraryName: UBCSolar; DeviceSetName: TLC555IP_TIMER; Package: TLC555IP_TIMER
footprint TLC555IP_TIMER
pins: 1 GND (io), 2 TRIG (io), 3 OUT (io), 4 RESET (io), 5 CONT (io), 6 THRES (io), 7 DISCH (io), 8 VDD (io)

## TPC817_OPTOCPLR
designator ?
GateName_1: G$1; SymbolName_1: TPC817_OPTOCPLR; LibraryName: UBCSolar; DeviceSetName: TPC817_OPTOCPLR; Package: TPC817_OPTOCPLR
footprint TPC817_OPTOCPLR
pins: 1 IN+ (io), 2 IN- (io), 3 OUT- (io), 4 OUT+ (io)

## UPW1V120MDD
designator ?
GateName_1: G$1; SymbolName_1: UPW1V120MDD; LibraryName: UBCSolar; DeviceSetName: UPW1V120MDD; Package: UPW1V120MDD
footprint UPW1V120MDD
pins: +, -

## UWT1C471MNL1GS
designator ?
GateName_1: G$1; SymbolName_1: UWT1C471MNL1GS; LibraryName: UBCSolar; DeviceSetName: UWT1C471MNL1GS; Package: UWT1C471MNL1GS
footprint UWT1C471MNL1GS
pins: +, -

## VICOR_MAXI_DCDC
designator ?
GateName_1: G$1; SymbolName_1: VICOR_MAXI_DCDC; LibraryName: UBCSolar; DeviceSetName: VICOR_MAXI_DCDC; Package: VICOR_MAXI_DCDC
footprint VICOR_MAXI_DCDC
pins: BP1 (io), BP2 (io), BP3 (io), BP4 (io), BP5 (io), BP6 (io), IN+ (io), IN- (io), OUT+ (io), OUT- (io), PC (io), PR (io), S+ (io), S- (io), SC (io)

## WURTH_WR_MPC3_3POS_VERT
designator ?
GateName_1: G$1; SymbolName_1: WURTH_WR_MPC3_3POS_VERT; LibraryName: UBCSolar; DeviceSetName: WURTH_WR_MPC3_3POS_VERT; Package: WURTH_WR_MPC3_3POS_VERT
footprint WURTH_WR_MPC3_3POS_VERT
pins: 1 (io), 2 (io), 3 (io)

## XBEE_SMD_ADAPTER
designator ?
GateName_1: G$1; SymbolName_1: XBEE_SMD_ADAPTER; LibraryName: UBCSolar; DeviceSetName: XBEE_SMD_ADAPTER; Package: XBEE_SMD_ADAPTER
footprint XBEE_SMD_ADAPTER
pins: 1 P$1 (io), 2 P$2 (io), 3 P$3 (io), 4 P$4 (io), 5 P$5 (io), 6 P$6 (io), 7 P$7 (io), 8 P$8 (io), 9 P$9 (io), 10 P$10 (io), 11 P$11 (io), 12 P$12 (io), 13 P$13 (io), 14 P$14 (io), 15 P$15 (io), 16 P$16 (io), 17 P$17 (io), 18 P$18 (io), 19 P$19 (io), 20 P$20 (io), 21 P$21 (io), 22 P$22 (io), 23 P$23 (io), 24 P$24 (io), 25 P$25 (io), 26 P$26 (io), 27 P$27 (io), 28 P$28 (io), 29 P$29 (io), 30 P$30 (io), 31 P$31 (io), 32 P$32 (io), 33 P$33 (io), 34 P$34 (io), 35 P$35 (io), 36 P$36 (io), 37 P$37 (io)

## XBEE_SMT
designator ?
GateName_1: G$1; SymbolName_1: XBEE_SMT; LibraryName: UBCSolar; DeviceSetName: XBEE_SMT; Package: XBEE_SMT
footprint XBEE_SMT
pins: [RESERVED]1 (io), [RESERVED]2 (io), [RESERVED]3 (io), [RESERVED]4 (io), [RESERVED]5 (io), [RESERVED]6 (io), [RESERVED]7 (io), [RESERVED]8 (io), DIN/DIO14/CONFIG (io), DIO0/AD0 (io), DIO1/AD1 (io), DIO2/AD2 (io), DIO3/AD3 (io), DIO4 (io), DIO5/ASSOC (io), DIO6/RTS (io), DIO7/CTS (io), DIO8/DTR/SLEEP_RQ (io), DIO9/ON/SLEEP (io), DIO10/RSSI/PWM0 (io), DIO11/PWM1 (io), DIO12 (io), DIO13/DOUT (io), DO15/SPI_MISO (io), DO16/SPI_MOSI (io), DO17/SPI_SSEL (io), DO18/SPI_CLK (io), DO19/SPI_ATTN (io), GND1 (io), GND2 (io), GND3 (io), GND4 (io), GND5 (io), GND_PAD (io), RESET (io), RF_PAD (io), VCC (io), VREF (io)